# Altium footprint library Misc.PcbLib: 133 footprints (part 9 of 9)
Each footprint in its own frame and in the unit in brackets; x right, y up, seen from the top. Pads: shape width x height; smd on the part's side, far side on the other; paste and mask are expansions set on the pad; w line width, h text height; cw(c..) or ccw(c..) is an arc to the next point about the centre after c.
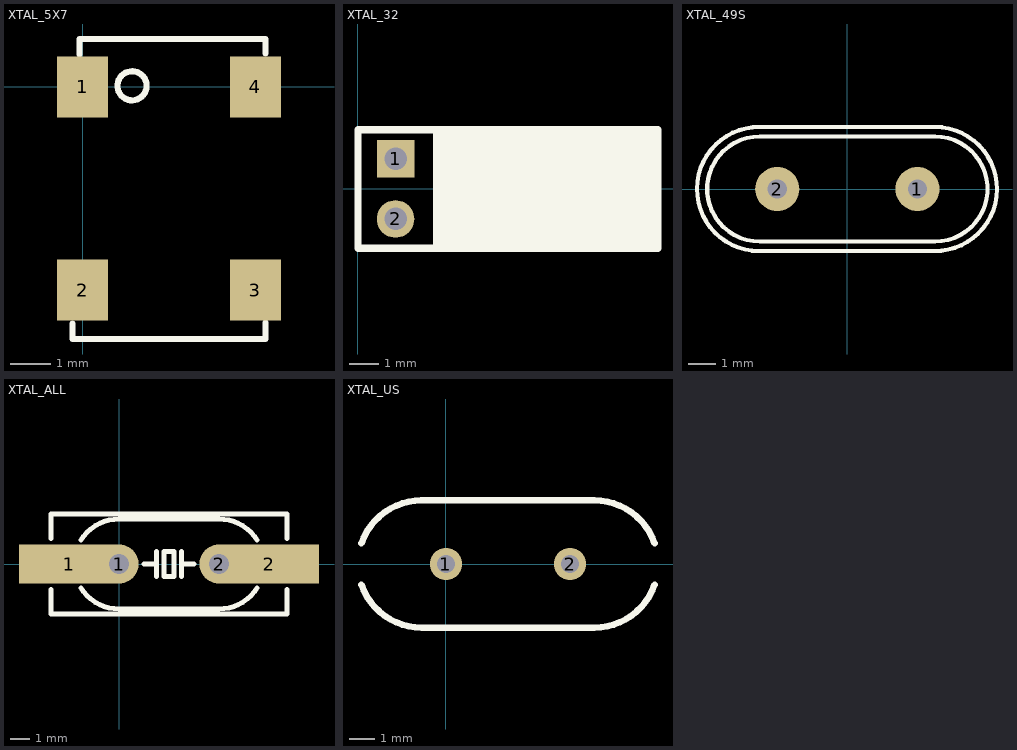
[diagram p8: the footprints below, top view; thin cyan lines are the x and y axes]

## XTAL_5X7 [mil]
pads (4):
  rect 50x60 smd: 1(0,0) 2(0,-200) 3(170,-200) 4(170,0)
Top Overlay:
  circle w6: c48.68,1 r14.32
  lines w6: -10,-233 -10,-248 180,-248 180,-232 ; -3,32 -3,47 180,47 180,33

## XTAL_32 [mil]
pads (2):
  rect 50x50 hole 30: 1(50,40)
  round 50 hole 30: 2(50,-40)
Top Overlay:
  lines w10: 105,-78.74 105,78.74 ; 115,-78.74 115,78.74 ; 123.7,-78.74 123.7,78.74 ; 130,-78.74 130,78.74 ; 140,-78.74 140,78.74 ; 148.7,-78.74 148.7,78.74 ; 155,-78.74 155,78.74 ; 165,-78.74 165,78.74 ; 173.7,-78.74 173.7,78.74 ; 180,-78.74 180,78.74 ; 190,-78.74 190,78.74 ; 198.7,-78.74 198.7,78.74 ; 200,-78.74 200,78.74 ; 210,-78.74 210,78.74 ; 218.7,-78.74 218.7,78.74 ; 225,-78.74 225,78.74 ; 235,-78.74 235,78.74 ; 243.7,-78.74 243.7,78.74 ; 250,-78.74 250,78.74 ; 260,-78.74 260,78.74 ; 268.7,-78.74 268.7,78.74 ; 275,-78.74 275,78.74 ; 285,-78.74 285,78.74 ; 293.7,-78.74 293.7,78.74 ; 300,-78.74 300,78.74 ; 310,-78.74 310,78.74 ; 318.7,-78.74 318.7,78.74 ; 325,-78.74 325,78.74 ; 335,-78.74 335,78.74 ; 343.7,-78.74 343.7,78.74 ; 350,-78.74 350,78.74 ; 360,-78.74 360,78.74 ; 368.7,-78.74 368.7,78.74 ; 375,-78.74 375,78.74 ; 385,-78.74 385,78.74 ; 393.7,-78.74 393.7,78.74 ; 0,-78.74 0,78.74 400,78.74 400,-78.74 0,-78.74

## XTAL_49S [mm] "Hole 1.6mm"
pads (2):
  round 1.6 hole 0.7: 1(2.54,0) 2(-2.54,0)
Top Overlay:
  lines w0.152: -3.2,-2.25 cw(c-3.2,0) -3.177,2.25 3.175,2.25 cw(c3.175,0) 3.151,-2.25 -3.2,-2.25 ; -3.175,-1.905 cw(c-3.175,0) -3.175,1.905 3.175,1.905 cw(c3.175,0) 3.175,-1.905 -3.175,-1.905

## XTAL_ALL [mm]
pads (4):
  rect 5.08x2 smd: 1(-2.54,0) 2(7.62,0)
  round 2 hole 1: 1(0,0) 2(5.08,0)
Top Overlay:
  lines w0.254: -3.46,-1.301 -3.46,-2.54 8.54,-2.54 8.54,-1.301 ; -3.46,1.301 -3.46,2.54 8.54,2.54 8.54,1.301 ; -1.939,-1.212 ccw(c0,0) 0,-2.286 5.08,-2.286 ccw(c5.08,0) 7.019,-1.212 ; -1.939,1.212 cw(c0,0) 0,2.286 5.08,2.286 cw(c5.08,0) 7.019,1.212 ; 1.27,0 1.905,0 ; 1.905,-0.635 1.905,0.635 ; 3.175,-0.635 3.175,0.635 ; 3.175,0 3.81,0 ; 2.286,-0.635 2.794,-0.635 2.794,0.635 2.286,0.635 2.286,-0.635

## XTAL_US [mil]
pads (2):
  round 50 hole 28: 1(0,0) 2(192.13,0)
Top Overlay:
  lines w10: -130.92,-31.85 ccw(c-37.79,0) -37.79,-98.42 ; -130.92,31.85 cw(c-37.79,0) -37.79,98.43 ; -38,98.42 229.92,98.43 cw(c229.92,0) 323.05,31.85 ; -37.8,-98.43 229.92,-98.42 ccw(c229.92,0) 323.05,-31.85